# Altium footprint library Spark.PcbLib: 35 footprints (part 3 of 3)
Each footprint in its own frame and in the unit in brackets; x right, y up, seen from the top. Pads: shape width x height; smd on the part's side, far side on the other; paste and mask are expansions set on the pad; w line width, h text height; cw(c..) or ccw(c..) is an arc to the next point about the centre after c.
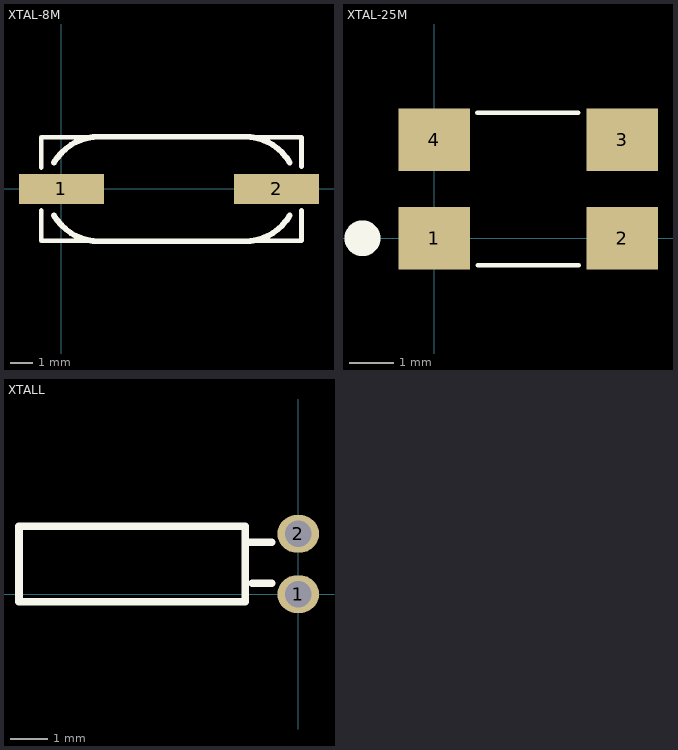
[diagram p2: the footprints below, top view; thin cyan lines are the x and y axes]

## XTAL-8M [mil]
pads (2):
  rect 146x51 smd: 1(0,0) 2(370,0)
Top Overlay:
  lines w8: -35,-37 -35,-89 413,-89 413,-37 ; -35,37 -35,89 413,89 413,38
  lines w10: -12.57,-45.63 ccw(c65,0) 65,-90 315,-90 ccw(c315,0) 392.57,-45.63 ; -12.57,45.63 cw(c65,0) 65,90 ; 55,90 315,90 cw(c315,0) 392.57,45.63

## XTAL-25M [mm]
pads (4):
  rect 1.6x1.4 smd: 1(0,0) 2(4.2,0) 3(4.2,2.2) 4(0,2.2)
Top Overlay:
  circle w0.6: c-1.599,0 r0.1
  lines w0.102: 0.966,2.8 3.222,2.8 ; 0.978,-0.6 3.234,-0.6

## XTALL [mm]
pads (2):
  oval 1.1x1 hole 0.7: 1(0,0) 2(0,1.6)
Top Overlay:
  lines w0.2: -1.289,1.378 -0.699,1.378 ; -1.221,0.295 -0.699,0.295 ; -7.399,-0.197 -7.399,1.803 -1.399,1.803 -1.399,-0.197 -7.399,-0.197